# Altium footprint library subhardwarePCB.PcbLib: 10 footprints
Each footprint in its own frame and in the unit in brackets; x right, y up, seen from the top. Pads: shape width x height; smd on the part's side, far side on the other; paste and mask are expansions set on the pad; w line width, h text height; cw(c..) or ccw(c..) is an arc to the next point about the centre after c.
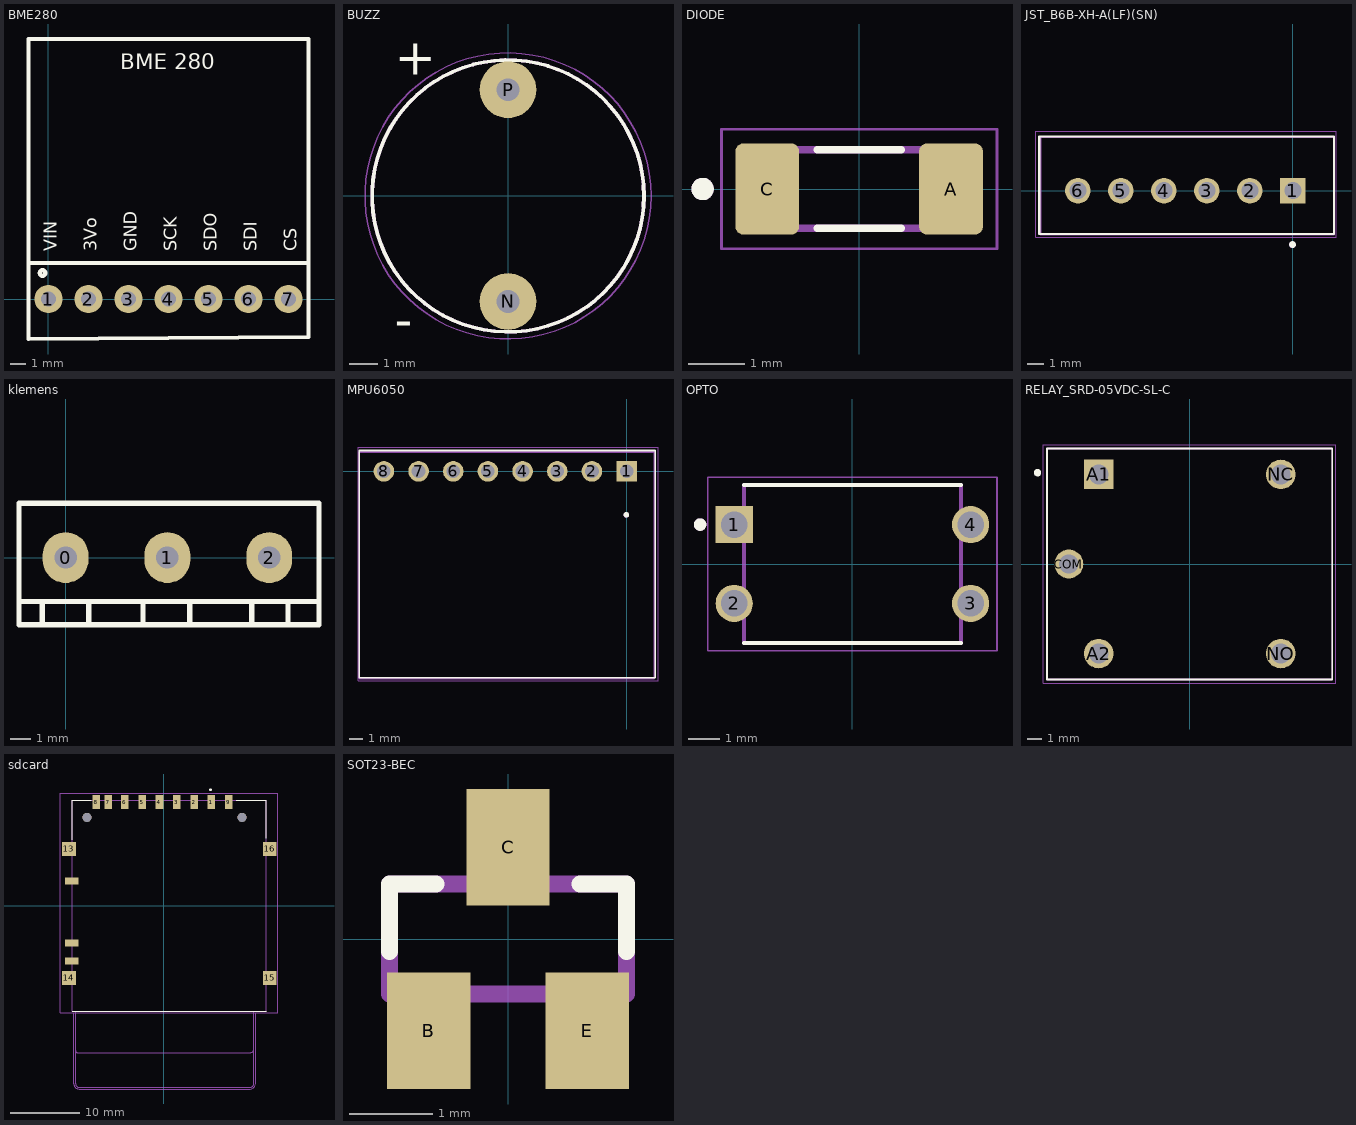
[diagram p0: the footprints below, top view; thin cyan lines are the x and y axes]

## BME280 [mm]
pads (7):
  round 1.8 hole 0.95: 1(0,0) 2(2.54,0) 3(5.08,0) 4(7.62,0) 5(10.16,0) 6(12.7,0) 7(15.24,0)
Top Overlay:
  circle w0.254: c-0.381,1.651 r0.18
  lines w0.254: -1.27,2.286 16.51,2.286 ; -1.27,-2.54 -1.27,16.51 16.51,16.51 16.51,-2.413 -1.27,-2.54
  text "VIN" at 0.535,3.021 h0.8
  text "3Vo" at 3.075,3.021 h0.8
  text "SCK" at 8.155,3.021 h0.8
  text "SDO" at 10.695,3.021 h0.8
  text "SDI" at 13.235,3.021 h0.8
  text "CS" at 15.775,3.021 h0.8
  text "BME 280" at 4.545,14.578 h1
  text "GND" at 5.615,3.021 h0.8
3D body "bme280.STEP": height 2.2, standoff -0.4, extent -1.27,-2.54 16.51,16.51

## BUZZ [mm]
pads (2):
  round 2 hole 0.8: N(0,-3.725) P(0,3.75)
Top Overlay:
  circle w0.127: c0,0 r4.8
  text "-" at -4,-4.99 h1.27
  text "+" at -4,4.27 h1.27
Mechanical 13:
  circle w0.127: c0,0 r4.8
  text "-" at -4,-4.99 h1.27
  text "+" at -4,4.27 h1.27
Mechanical 15:
  circle w0.05: c0,0 r5.05
3D body "BUZZ.step": height 9, standoff -6, extent -6,-6 6,6

## DIODE [mm]
pads (2):
  rrect25% 1.14x1.63 smd: A(1.64,0) C(-1.64,0)
Top Overlay:
  circle w0.2: c-2.795,0 r0.1
  lines w0.127: -0.75,-0.7 0.75,-0.7 ; -0.75,0.7 0.75,0.7
Mechanical 13:
  circle w0.2: c-2.795,0 r0.1
  lines w0.127: -1.7,-0.7 -1.7,0.7 1.7,0.7 1.7,-0.7 -1.7,-0.7
Mechanical 15:
  lines w0.05: -2.46,-1.065 -2.46,1.065 2.46,1.065 2.46,-1.065 -2.46,-1.065
3D body "step_temp.STEP": height 1.5, standoff 0, extent -1.725,-0.75 1.725,0.75

## JST_B6B-XH-A(LF)(SN) [mm]
pads (6):
  rect 1.508x1.508 hole 1: 1(0,0)
  round 1.508 hole 1: 2(-2.54,0) 3(-5.08,0) 4(-7.62,0) 5(-10.16,0) 6(-12.7,0)
Top Overlay:
  circle w0.2: c-0.018,-3.181 r0.1
  lines w0.127: -14.984,-2.556 -14.984,3.194 2.432,3.194 2.432,-2.556 -14.984,-2.556
Mechanical 13:
  circle w0.2: c-0.025,-3.2 r0.1
  lines w0.127: -14.9,-2.575 -14.9,3.175 2.425,3.175 2.425,-2.575 -14.9,-2.575
Mechanical 15:
  lines w0.05: -15.175,-2.75 2.55,-2.75 2.55,3.5 -15.175,3.5 -15.175,-2.75
3D body "B6B-XH-A-LF--SN---3DModel-STEP-269445.STEP": height 7, standoff -3.4, extent -15.025,-2.45 2.375,3.3

## klemens [mm]
pads (3):
  oval 2.25x2.5 hole 1.1: 0(0,0) 1(5,0) 2(10,0)
Top Overlay:
  lines w0.254: -2.286,-2.159 12.446,-2.159 ; -1.143,-2.159 -1.143,-3.302 -1.016,-3.302 ; 1.143,-3.302 1.143,-2.159 ; 3.81,-3.302 3.81,-2.159 ; 3.937,-3.302 6.096,-3.302 6.096,-2.286 ; 9.144,-2.286 9.144,-3.302 10.922,-3.302 10.922,-2.286 ; -2.286,-3.302 -2.286,2.667 12.446,2.667 12.446,-3.302 -2.286,-3.302
3D body "terminalblok.STEP": height 10, standoff -2, extent -2.65,-4 12.5,4

## MPU6050 [mm]
pads (8):
  rect 1.508x1.508 hole 1: 1(0,0)
  round 1.508 hole 1: 2(-2.54,0) 3(-5.08,0) 4(-7.62,0) 5(-10.16,0) 6(-12.7,0) 7(-15.24,0) 8(-17.78,0)
Top Overlay:
  circle w0.2: c-0.018,-3.181 r0.1
  lines w0.127: -19.575,-15.125 -19.575,1.519 2.107,1.519 2.107,-15.125 -19.575,-15.125
Mechanical 13:
  lines w0.127: -19.575,-15.175 2.025,-15.175 2.025,1.425 -19.575,1.425 -19.575,-15.175
  lines w0.2: 0.026,-3.114 ccw(c-0.025,-3.2) 0.075,-3.2
Mechanical 15:
  lines w0.05: -19.675,-15.325 2.3,-15.325 2.3,1.75 -19.675,1.75 -19.675,-15.325
3D body "MPU6050.STEP": height 5.49, standoff -6.26, extent -19.6,-15.075 1.9,1.425

## OPTO [mm]
pads (4):
  rect 1.2x1.2 hole 0.85: 1(-3.81,1.27)
  round 1.2 hole 0.85: 2(-3.81,-1.27) 3(3.81,-1.27) 4(3.81,1.27)
Top Overlay:
  circle w0.2: c-4.91,1.27 r0.1
  lines w0.127: -3.5,-2.55 3.5,-2.55 ; -3.5,2.55 3.5,2.55
Mechanical 13:
  circle w0.2: c-4.91,1.27 r0.1
  lines w0.127: -3.5,-2.55 -3.5,2.55 3.5,2.55 3.5,-2.55 -3.5,-2.55
Mechanical 15:
  lines w0.05: -4.66,-2.8 -4.66,2.8 4.66,2.8 4.66,-2.8 -4.66,-2.8
3D body "step_temp.STEP": height 5, standoff -3.3, extent -4.529,-2.3 4.529,2.3

## RELAY_SRD-05VDC-SL-C [mm]
pads (5):
  rect 1.98x1.98 hole 1.32: A1(-6.1,6)
  round 1.98 hole 1.32: A2(-6.1,-6) NC(6.1,6) NO(6.1,-6)
  round 1.935 hole 1.29: COM(-8.1,0)
Top Overlay:
  circle w0.3: c-10.2,6.119 r0.1
  lines w0.127: -9.55,-7.75 -9.55,7.75 9.55,7.75 9.55,-7.75 -9.55,-7.75
Mechanical 13:
  lines w0.127: -9.55,-7.75 -9.55,7.75 9.55,7.75 9.55,-7.75 -9.55,-7.75
Mechanical 15:
  lines w0.05: -9.8,-8 -9.8,8 9.8,8 9.8,-8 -9.8,-8
3D body "step_temp.STEP": height 16.15, standoff -4, extent -10.008,-7.507 8.992,7.493

## sdcard [mm]
pads (18):
  rect 1.1x2 smd: 1(6.875,14.95) 2(4.375,14.95) 3(1.875,14.95) 4(-0.625,14.95) 5(-3.125,14.95) 6(-5.625,14.95) 7(-8.05,14.95) 8(-9.75,14.95) 9(9.375,14.95)
  rect 2x1 smd: 10(-13.3,3.55) 11(-13.3,-5.4) 12(-13.3,-8)
  rect 2x2 smd: 13(-13.7,8.2) 14(-13.7,-10.45) 15(15.3,-10.45) 16(15.3,8.2)
  round 1.3 hole 1.3 unplated: ""(-11.1,12.75) ""(11.3,12.75)
Top Overlay:
  circle w0.2: c6.75,16.75 r0.1
  lines w0.127: -13.2,-15.25 14.8,-15.25 ; -13.2,9.5 -13.2,15.25 -10.5,15.25 ; 10.5,15.25 14.8,15.25 14.8,9.75
Mechanical 13:
  lines w0.127: -13.2,-15.25 -13.2,15.25 14.8,15.25 14.8,-15.25 ; -12.75,-15.25 -12.75,-21 ; 13,-15.25 13,-20.75 ; -12.75,-21 ccw(c-12.5,-21) -12.5,-21.25 12.5,-21.25 ccw(c12.5,-20.75) 13,-20.75 ; -12.75,-21 -12.75,-25.75 ccw(c-12.25,-25.75) -12.25,-26.25 12.5,-26.25 ccw(c12.5,-25.75) 13,-25.75 13,-20.75
Mechanical 15:
  lines w0.05: -13,-15.5 -13,-25.75 ccw(c-12.25,-25.75) -12.25,-26.5 12.5,-26.5 ccw(c12.5,-25.75) 13.25,-25.75 13.25,-15.5 ; -13,-15.5 -15,-15.5 -15,16.25 16.5,16.25 16.5,-15.5 13.25,-15.5 ; -13,-15.5 13.25,-15.5
3D body "sdcard.stp": height 2.9, standoff -0.55, extent -14.103,-14.813 15.897,15.687

## SOT23-BEC [mm]
pads (3):
  rect 1x1.4 smd: B(-0.95,-1.1) C(0,1.1) E(0.95,-1.1)
Top Overlay:
  lines w0.203: -1.422,-0.152 -1.422,0.66 -0.864,0.66 ; 0.864,0.66 1.422,0.66 1.422,-0.152
Mechanical 13:
  lines w0.203: -1.422,-0.66 -1.422,0.66 1.422,0.66 1.422,-0.66 -1.422,-0.66
3D body "step_temp.STEP": height 1.11, standoff 0, extent -1.45,-1.2 1.45,1.2